# Altium schematic symbol library ICS-43432.SchLib: 1 symbol
Pins are listed as number, name and electrical type; pins without a type are passive.

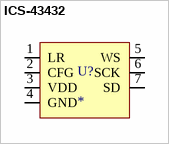
[diagram p0: symbol ICS-43432]

## ICS-43432
designator U?
INVENSENSE MEMS MICROPHONE DIGITAL
pins: 1 LR, 2 CFG, 3 VDD, 4 GND, 5 WS, 6 SCK, 7 SD